# Altium footprint library CY62128E.PcbLib: 1 footprints
Each footprint in its own frame and in the unit in brackets; x right, y up, seen from the top. Pads: shape width x height; smd on the part's side, far side on the other; paste and mask are expansions set on the pad; w line width, h text height; cw(c..) or ccw(c..) is an arc to the next point about the centre after c.
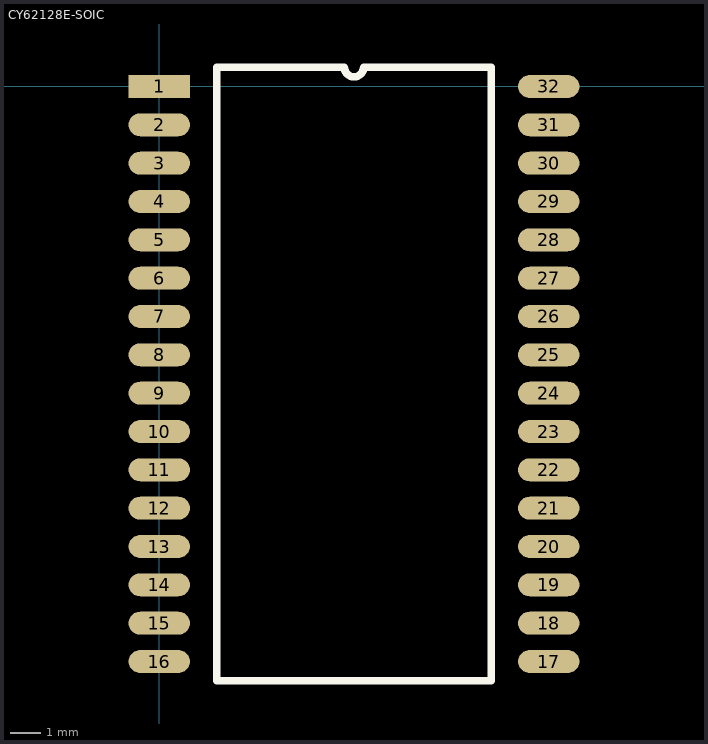
[diagram p0: the footprint, top view; thin cyan lines are the x and y axes]

## CY62128E-SOIC [mil]
pads (32):
  rect 80x30 smd: 1(0,0)
  oval 80x30 smd: 2(0,-50) 3(0,-100) 4(0,-150) 5(0,-200) 6(0,-250) 7(0,-300) 8(0,-350) 9(0,-400) 10(0,-450) 11(0,-500) 12(0,-550) 13(0,-600) 14(0,-650) 15(0,-700) 16(0,-750) 17(508,-750) 18(508,-700) 19(508,-650) 20(508,-600) 21(508,-550) 22(508,-500) 23(508,-450) 24(508,-400) 25(508,-350) 26(508,-300) 27(508,-250) 28(508,-200) 29(508,-150) 30(508,-100) 31(508,-50) 32(508,0)
Top Overlay:
  lines w10: 75,-775 433,-775 433,25 266.5,25 cw(c254,25) 241.5,25 75,25 75,-775